# Altium schematic symbol library SW-DIP8.Schlib: 1 symbol
Pins are listed as number, name and electrical type; pins without a type are passive.

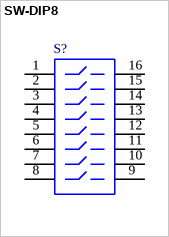
[diagram p0: symbol SW-DIP8]

## SW-DIP8
designator S?
4009 Series DIP Switch, Raised actuator
pins: 1, 2, 3, 4, 5, 6, 7, 8, 9, 10, 11, 12, 13, 14, 15, 16